# Altium footprint library TecSix16.PcbLib: 32 footprints (part 2 of 2)
Each footprint in its own frame and in the unit in brackets; x right, y up, seen from the top. Pads: shape width x height; smd on the part's side, far side on the other; paste and mask are expansions set on the pad; w line width, h text height; cw(c..) or ccw(c..) is an arc to the next point about the centre after c.
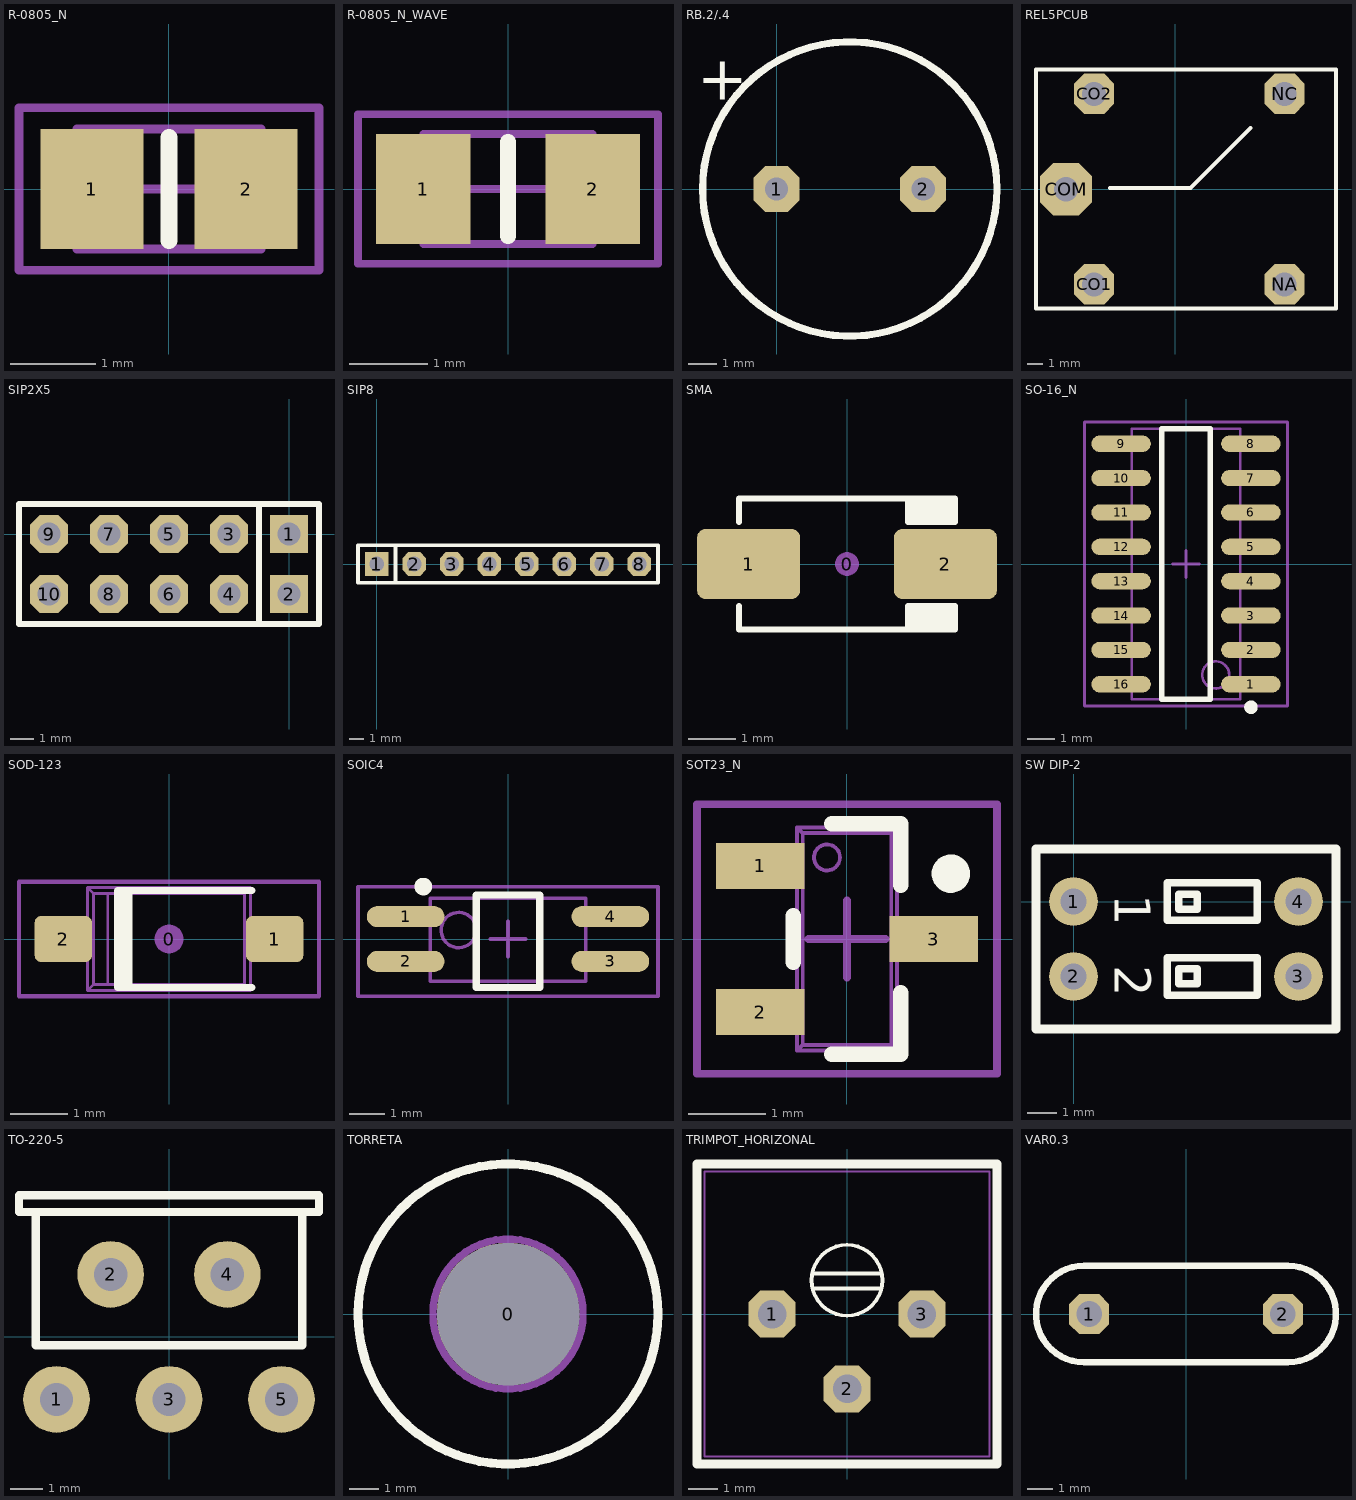
[diagram p1: the footprints below, top view; thin cyan lines are the x and y axes]

## R-0805_N [mm] "Chip Resistor, Body 2.0x1.2mm, IPC Medium Density"
height 0.7
pads (2):
  rect 1.2x1.4 smd: 1(-0.9,0) 2(0.9,0)
Top Overlay:
  lines w0.2: 0,-0.6 0,0.6
Mechanical 13:
  lines w0.1: -1.075,-0.7 1.075,-0.7 1.075,0.7 -1.075,0.7 -1.075,-0.7
Mechanical 15:
  lines w0.1: -0.5,0 0.5,0 ; 0,-0.5 0,0.5 ; -1.75,-0.95 1.75,-0.95 1.75,0.95 -1.75,0.95 -1.75,-0.95
3D body: height 0.69, standoff -0.01, extent -1.1,-0.675 1.1,0.675

## R-0805_N_WAVE [mm] "Chip Resistor, Body 2.0x1.2mm, IPC Medium Density, Wave soldering"
height 0.7
pads (2):
  rect 1.2x1.4 smd: 1(-1.075,0) 2(1.075,0)
Top Overlay:
  lines w0.2: 0,-0.6 0,0.6
Mechanical 13:
  lines w0.1: -1.075,-0.7 -1.075,0.7 1.075,0.7 1.075,-0.7 -1.075,-0.7
Mechanical 15:
  lines w0.1: -0.5,0 0.5,0 ; 0,-0.5 0,0.5 ; -1.905,-0.95 -1.905,0.95 1.905,0.95 1.905,-0.95 -1.905,-0.95
3D body: height 0.69, standoff -0.01, extent -1.1,-0.675 1.1,0.675

## RB.2/.4 [mil] "Eletrolytic capacitor 0.2in 10x21mm"
height 826.77
pads (2):
  oct 63x63 hole 32: 1(0,0) 2(200,0)
Top Overlay:
  circle w10: c100,0 r200.79
  text "+" at -108.46,122.05 h60
3D body: height 826.77, standoff 0, extent -101.2,-201.2 301.2,201.2

## REL5PCUB [mil]
height 472.44
pads (5):
  oct 100x100 hole 60: CO1(-202.5,-237.5) CO2(-202.5,237.5) NA(272.5,-237.5) NC(272.5,237.5)
  oct 130x130 hole 60: COM(-272.5,-0.5)
Top Overlay:
  lines w10: -162.5,2.5 37.5,2.5 ; 37.6,2.6 187.6,152.6 ; -347.4,-297.4 400.63,-297.4 400.63,297.6 -347.4,297.6 -347.4,-297.4
3D body: height 590.75, standoff -78.54, extent -387.54,-316.24 399.86,313.68

## SIP2X5 [mil]
height 472.44
pads (10):
  rect 63x63 hole 39: 1(0,0) 2(0,-100)
  oct 63x63 hole 39: 3(-100,0) 4(-100,-100) 5(-200,0) 6(-200,-100) 7(-300,0) 8(-300,-100) 9(-400,0) 10(-400,-100)
Top Overlay:
  lines w10: -50,-150 -50,-50 -50,50 ; -450,-150 50,-150 50,-50 50,50 -450,50 -450,-150
3D body: height 336.22, standoff -118.11, extent -450.2,-147.82 49.8,-49.79
3D body: height 336.22, standoff -118.11, extent -450.2,-49.82 49.8,48.21

## SIP8 [mil]
height 472.44
pads (8):
  rect 63x63 hole 39: 1(0,0)
  oct 63x63 hole 39: 2(100,0) 3(200,0) 4(300,0) 5(400,0) 6(500,0) 7(600,0) 8(700,0)
Top Overlay:
  lines w10: 50,-50 50,50 ; -50,-50 750,-50 750,50 -50,50 -50,-50
3D body: height 336.22, standoff -118.11, extent -50.2,-49.21 749.8,48.82

## SMA [mm] "JEDEC DO-214AC. SMA"
height 2.5
pads (3):
  round 0.508 on Mech15: 0(0,0)
  rrect25% 2.2x1.5 smd: 1(-2.1,0) 2(2.1,0)
Top Overlay:
  rectangle: 1.3,0.9 2.3,1.4
  rectangle: 1.3,-1.4 2.3,-0.9
  lines w0.127: -2.3,-0.9 -2.3,-1.4 2.3,-1.4 2.3,-0.9 1.3,-0.9 1.3,-1.4 ; -2.3,0.9 -2.3,1.4 2.3,1.4 2.3,0.9 1.3,0.9 ; 1.3,0.911 1.3,1.4
3D body: height 2.42, standoff 0.02, extent -2.6,-1.3 2.6,1.3

## SO-16_N [mm] "SOIC, 16-Leads, Body 9.9x3.9mm, Pitch 1.27mm, IPC Medium Density"
height 1.75
pads (16):
  oval 2.2x0.6 smd: 1(2.4,-4.445) 2(2.4,-3.175) 3(2.4,-1.905) 4(2.4,-0.635) 5(2.4,0.635) 6(2.4,1.905) 7(2.4,3.175) 8(2.4,4.445) 9(-2.4,4.445) 10(-2.4,3.175) 11(-2.4,1.905) 12(-2.4,0.635) 13(-2.4,-0.635) 14(-2.4,-1.905) 15(-2.4,-3.175) 16(-2.4,-4.445)
Top Overlay:
  circle w0.25: c2.4,-5.295 r0.125
  lines w0.2: -0.9,-5 0.9,-5 0.9,5 -0.9,5 -0.9,-5
Mechanical 13:
  circle w0.1: c1.1,-4.1 r0.5
  lines w0.1: -2,-5 2,-5 2,5 -2,5 -2,-5
Mechanical 15:
  lines w0.1: -0.5,0 0.5,0 ; 0,-0.5 0,0.5 ; -3.75,-5.25 3.75,-5.25 3.75,5.25 -3.75,5.25 -3.75,-5.25
3D body: height 1.7, standoff 0, extent -2.997,-5.095 3.003,5.105

## SOD-123 [mm] "SOD-123; 2 Leads; Body 2.7 x 1.6 mm, (LxW)"
height 1.35
pads (3):
  round 0.508 on Mech15: 0(0,0)
  rrect25% 1x0.8 smd: 1(1.85,0) 2(-1.85,0)
Top Overlay:
  lines w0.127: -0.8,-0.85 -0.8,0.85 ; -0.7,-0.85 -0.7,0.85 ; 1.448,-0.85 -0.9,-0.85 -0.9,0.85 1.45,0.85
Mechanical 13:
  lines w0.05: -1.766,-0.308 -1.766,0.308 ; -1.707,-0.308 -1.707,0.308 ; -1.517,-0.308 -1.517,0.308 ; -1.425,-0.308 -1.95,-0.308 -1.95,0.308 -1.425,0.308 ; 1.425,-0.308 1.95,-0.308 1.95,0.308 1.425,0.308 ; 1.517,-0.308 1.517,0.308 ; 1.707,-0.308 1.707,0.308 ; 1.766,-0.308 1.766,0.308 ; -1.425,-0.9 1.425,-0.9 ; -1.425,-0.9 -1.323,-0.798 ; -1.425,-0.9 -1.425,0.9 ; -1.425,0.9 -1.323,0.798 ; -1.425,0.9 1.425,0.9 ; -1.323,-0.798 -1.072,-0.798 ; -1.323,-0.798 -1.323,0.798 ; -1.323,0.798 -1.072,0.798 ; -1.072,-0.798 1.322,-0.797 ; -1.072,-0.798 -1.072,0.798 ; -1.072,0.798 1.322,0.797 ; 1.322,-0.797 1.322,0.797 ; 1.322,-0.797 1.425,-0.9 ; 1.322,0.797 1.425,0.9 ; 1.425,-0.9 1.425,0.9
Mechanical 15:
  lines w0.076: -2.625,-1 2.625,-1 2.625,1 -2.625,1 -2.625,-1
3D body: height 1.18, standoff 0, extent -1.95,-0.9 1.95,0.9

## SOIC4 [mm] "4-Pin Plastic Narrow Body Small Outline Integrated Circuit 1.27 mm Pitch, IPC Medium Density"
height 1.76
pads (4):
  oval 2.2x0.6 smd: 1(-2.9,0.635) 2(-2.9,-0.635) 3(2.9,-0.635) 4(2.9,0.635)
Top Overlay:
  circle w0.25: c-2.4,1.485 r0.125
  lines w0.2: -0.9,-1.372 -0.9,1.245 0.9,1.245 0.9,-1.372 -0.9,-1.372
Mechanical 13:
  circle w0.1: c-1.397,0.254 r0.5
  lines w0.1: -2.2,-1.194 -2.2,1.15 2.2,1.15 2.2,-1.194 -2.2,-1.194
Mechanical 15:
  lines w0.1: -0.5,0 0.5,0 ; 0,-0.5 0,0.5 ; 4.25,1.473 -4.25,1.475 -4.25,-1.626 4.25,-1.626 4.25,1.475
3D body: height 2.01, standoff -0.12, extent -3.5,-1.295 3.5,1.305

## SOT23_N [mm] "SOT23, 3-Leads, Body 2.9x1.3mm, Pitch 0.95mm, Lead Span 2.3mm - Reverse Pinning, IPC Medium Density"
height 1.1
pads (3):
  rect 1.15x0.6 smd: 1(-1.125,0.95) 2(-1.125,-0.95) 3(1.125,0)
Top Overlay:
  circle w0.25: c1.35,0.85 r0.125
  lines w0.2: -0.7,-0.3 -0.7,0.3 ; -0.2,-1.5 0.7,-1.5 0.7,-0.7 ; -0.2,1.5 0.7,1.5 0.7,0.7
Mechanical 13:
  circle w0.05: c-0.26,1.06 r0.169
  lines w0.05: -1.19,-1.19 -1.19,-0.71 ; -1.19,0.71 -1.19,1.19 ; -1.099,-1.19 -1.099,-0.71 ; -1.099,0.71 -1.099,1.19 ; -1.074,-1.19 -1.074,-0.71 ; -1.074,0.71 -1.074,1.19 ; -0.825,-1.19 -0.825,-0.71 ; -0.825,0.71 -0.825,1.19 ; -0.65,-1.19 -1.4,-1.19 -1.4,-0.71 -0.65,-0.71 ; -0.65,0.71 -1.4,0.71 -1.4,1.19 -0.65,1.19 ; 0.65,-0.24 1.4,-0.24 1.4,0.24 0.65,0.24 ; 0.825,-0.24 0.825,0.24 ; 1.074,-0.24 1.074,0.24 ; 1.099,-0.24 1.099,0.24 ; 1.19,-0.24 1.19,0.24 ; -0.65,-1.45 -0.576,-1.376 ; -0.65,-1.45 -0.65,1.45 ; -0.65,-1.45 0.65,-1.45 ; -0.65,1.45 0.65,1.45 ; -0.65,1.45 -0.576,1.376 ; -0.576,-1.376 -0.576,1.376 ; -0.576,-1.376 0.576,-1.376 ; -0.576,1.376 0.576,1.376 ; 0.576,-1.376 0.576,1.376 ; 0.576,-1.376 0.65,-1.45 ; 0.576,1.376 0.65,1.45 ; 0.65,-1.45 0.65,1.45
Mechanical 15:
  lines w0.1: -0.5,0 0.5,0 ; 0,-0.5 0,0.5 ; -1.95,-1.75 1.95,-1.75 1.95,1.75 -1.95,1.75 -1.95,-1.75
3D body: height 1.29, standoff -0.01, extent -1.4,-1.45 1.4,1.45

## SW DIP-2 [mil]
height 275.59
pads (4):
  round 65 hole 35: 1(0,0) 2(0,-100) 3(300,-100) 4(300,0)
Top Overlay:
  lines w10: 125,-125 245,-125 245,-75 125,-75 125,-125 ; 125,-25 245,-25 245,25 125,25 125,-25 ; 140,-110 165,-110 165,-90 140,-90 140,-110 ; 140,-10 165,-10 165,10 140,10 140,-10
  lines w12: -50,-170 -50,70 350,70 350,-170 -50,-170
  text "1" at 55,10 h48
  text "2" at 55,-85 h48
3D body: height 272.05, standoff -125.59, extent -50,-179.92 350,79.92

## TO-220-5 [mil]
height 472.44
pads (5):
  round 80 hole 40: 1(-135,-75) 2(-70,75) 3(0,-75) 4(70,75) 5(135,-75)
Top Overlay:
  lines w10: -160,150 -160,-10 160,-10 160,150 ; -160,150 160,150 ; -160,150 -180,150 -180,170 180,170 180,150 160,150
3D body: height 767.72, standoff -345.74, extent -200.79,-82 200.78,254.87

## TORRETA [mil]
height 275.59
pads (1):
  round 190 hole 190: 0(0,0)
Top Overlay:
  circle w12: c0,0 r200
Mechanical 1:
  lines w10: -50,-50 50,50 ; -50,50 50,-50
Mechanical 3:
  circle w10: c0,0 r100

## TRIMPOT_HORIZONAL [mil] "Trimpot horizontal, top adjustment"
height 196.85
pads (3):
  oct 63x63 hole 38: 1(-100,0) 2(0,-100) 3(100,0)
Top Overlay:
  circle w5: c0,45 r47.24
  lines w5: -46,54 45,54.02 ; -45,34 45,34.02
  lines w12: -200,-200 200,-200 200,200 -200,200 -200,-200
Mechanical 13:
  lines w1.97: -190,-190 -190,190 190,190 190,-190 -190,-190
Mechanical 15:
  lines w3: -190,-190 -190,190 190,190 190,-190 -190,-190
3D body: height 197.74, standoff -216.04, extent -188.98,-187.95 188.98,190

## VAR0.3 [mil] "Metal oxide varistor 7mm"
height 314.96
pads (2):
  oct 62x62 hole 40: 1(-150,0) 2(150,0)
Top Overlay:
  lines w10: -157.48,-74.8 cw(c-157.48,0.2) -157.48,75.2 157.48,75.2 cw(c157.48,0.2) 157.48,-74.8 -157.48,-74.8
3D body: height 472.44, standoff -98.43, extent -216.45,-70.87 216.45,67.48